# Altium footprint library AltiumDesigner.PcbLib: 4 footprints
Each footprint in its own frame and in the unit in brackets; x right, y up, seen from the top. Pads: shape width x height; smd on the part's side, far side on the other; paste and mask are expansions set on the pad; w line width, h text height; cw(c..) or ccw(c..) is an arc to the next point about the centre after c.
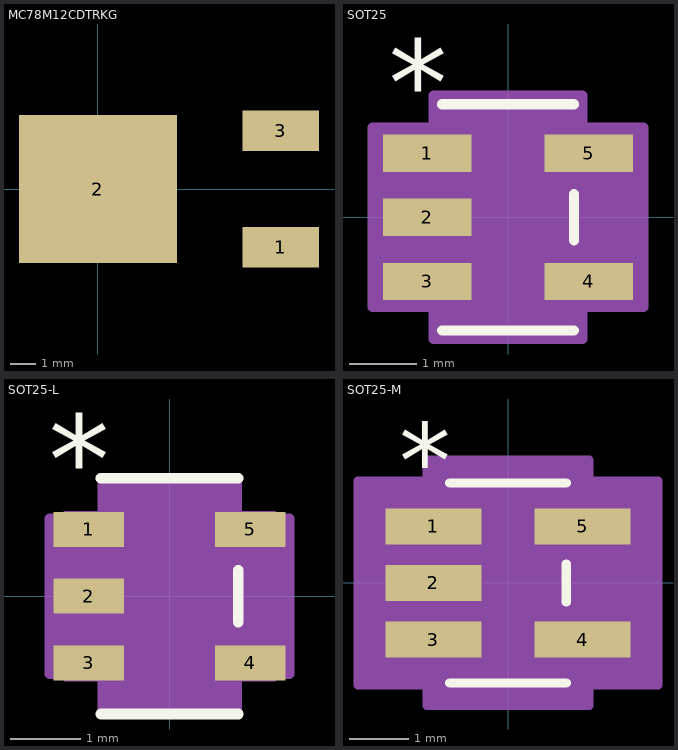
[diagram p0: the footprints below, top view; thin cyan lines are the x and y axes]

## MC78M12CDTRKG [mm]
pads (3):
  rect 3x1.6 smd: 1(7.18,-2.285) 3(7.18,2.285)
  rect 6.2x5.8 smd: 2(0,0)
3D body "DPAK-3_ONS-M.step": height 1.77, standoff 0.01, extent -1.439,-3.216 6.628,3.516

## SOT25 [mm]
pads (5):
  rect 1.311x0.551 smd paste+0 mask+0: 1(-1.2,0.95) 2(-1.2,0) 3(-1.2,-0.95) 4(1.2,-0.95) 5(1.2,0.95)
Top Overlay:
  lines w0.152: -0.977,-1.677 0.977,-1.677 ; -0.977,1.677 0.977,1.677 ; 0.977,-0.342 0.977,0.342
  text "*" at -1.772,1.374 h1.27
Mechanical 13:
  lines w0: -0.305,1.55 ccw(c0,1.55) 0.305,1.55
  lines w0.025: -1.5,-1.2 -0.85,-1.2 -0.85,-0.7 -1.5,-0.7 -1.5,-1.2 ; -1.5,-0.25 -0.85,-0.25 -0.85,0.25 -1.5,0.25 -1.5,-0.25 ; -1.5,0.7 -0.85,0.7 -0.85,1.2 -1.5,1.2 -1.5,0.7 ; -0.85,-1.55 -0.85,1.55 0.85,1.55 0.85,-1.55 -0.85,-1.55 ; 0.85,-1.2 1.5,-1.2 1.5,-0.7 0.85,-0.7 0.85,-1.2 ; 0.85,0.7 1.5,0.7 1.5,1.2 0.85,1.2 0.85,0.7
  text "*" at -0.914,0.282 h1.27
Mechanical 15:
  region: 1.104,-1.804 -1.104,-1.804 -1.104,-1.331 -2.008,-1.331 -2.008,1.331 -1.104,1.331 -1.104,1.804 1.104,1.804 1.104,1.331 2.008,1.331 2.008,-1.331 1.104,-1.331
  lines w0.152: -2.008,-1.331 -2.008,1.331 -1.104,1.331 -1.104,1.804 1.104,1.804 1.104,1.331 2.008,1.331 2.008,-1.331 1.104,-1.331 1.104,-1.804 -1.104,-1.804 -1.104,-1.331 -2.008,-1.331
3D body: height 0.25, standoff 0, extent 0,0 0.254,0.254
3D body "SOT25.stp": height 1.45, standoff 0, extent -1.5,-1.55 1.5,1.55

## SOT25-L [mm]
pads (5):
  rect 1.006x0.5 smd paste+0 mask+0: 1(-1.149,0.95) 2(-1.149,0) 3(-1.149,-0.95) 4(1.149,-0.95) 5(1.149,0.95)
Top Overlay:
  lines w0.152: -0.977,-1.677 0.977,-1.677 ; -0.977,1.677 0.977,1.677 ; 0.977,-0.367 0.977,0.367
  text "*" at -1.721,1.323 h1.27
Mechanical 13:
  lines w0: -0.305,1.55 ccw(c0,1.55) 0.305,1.55
  lines w0.025: -1.5,-1.2 -0.85,-1.2 -0.85,-0.7 -1.5,-0.7 -1.5,-1.2 ; -1.5,-0.25 -0.85,-0.25 -0.85,0.25 -1.5,0.25 -1.5,-0.25 ; -1.5,0.7 -0.85,0.7 -0.85,1.2 -1.5,1.2 -1.5,0.7 ; -0.85,-1.55 -0.85,1.55 0.85,1.55 0.85,-1.55 -0.85,-1.55 ; 0.85,-1.2 1.5,-1.2 1.5,-0.7 0.85,-0.7 0.85,-1.2 ; 0.85,0.7 1.5,0.7 1.5,1.2 0.85,1.2 0.85,0.7
  text "*" at -0.914,0.231 h1.27
Mechanical 15:
  region: 0.952,-1.652 -0.952,-1.652 -0.952,-1.102 -1.703,-1.102 -1.703,1.102 -0.952,1.102 -0.952,1.652 0.952,1.652 0.952,1.102 1.703,1.102 1.703,-1.102 0.952,-1.102
  lines w0.152: -1.703,-1.102 -1.703,1.102 -0.952,1.102 -0.952,1.652 0.952,1.652 0.952,1.102 1.703,1.102 1.703,-1.102 0.952,-1.102 0.952,-1.652 -0.952,-1.652 -0.952,-1.102 -1.703,-1.102
3D body: height 0.25, standoff 0, extent 0,0 0.254,0.254

## SOT25-M [mm]
pads (5):
  rect 1.616x0.602 smd paste+0 mask+0: 1(-1.251,0.95) 2(-1.251,0) 3(-1.251,-0.95) 4(1.251,-0.95) 5(1.251,0.95)
Top Overlay:
  lines w0.152: -0.977,-1.677 0.977,-1.677 ; -0.977,1.677 0.977,1.677 ; 0.977,-0.316 0.977,0.316
  text "*" at -1.822,1.425 h1.27
Mechanical 13:
  lines w0: -0.305,1.55 ccw(c0,1.55) 0.305,1.55
  lines w0.025: -1.5,-1.2 -1.5,-0.7 -0.85,-0.7 -0.85,-1.2 -1.5,-1.2 ; -1.5,-0.25 -1.5,0.25 -0.85,0.25 -0.85,-0.25 -1.5,-0.25 ; -1.5,0.7 -1.5,1.2 -0.85,1.2 -0.85,0.7 -1.5,0.7 ; -0.85,-1.55 0.85,-1.55 0.85,1.55 -0.85,1.55 -0.85,-1.55 ; 0.85,-1.2 0.85,-0.7 1.5,-0.7 1.5,-1.2 0.85,-1.2 ; 0.85,0.7 0.85,1.2 1.5,1.2 1.5,0.7 0.85,0.7
  text "*" at -0.914,0.332 h1.27
Mechanical 15:
  region: 1.358,-2.058 -1.358,-2.058 -1.358,-1.712 -2.516,-1.712 -2.516,1.712 -1.358,1.712 -1.358,2.058 1.358,2.058 1.358,1.712 2.516,1.712 2.516,-1.712 1.358,-1.712
  lines w0.152: -2.516,-1.712 -1.358,-1.712 -1.358,-2.058 1.358,-2.058 1.358,-1.712 2.516,-1.712 2.516,1.712 1.358,1.712 1.358,2.058 -1.358,2.058 -1.358,1.712 -2.516,1.712 -2.516,-1.712
3D body "SOT25-M.stp": height 1.45, standoff 0, extent -1.5,-1.55 1.5,1.55
3D body: height 0.25, standoff 0, extent 0,0 0.254,0.254